# Altium integrated library Analog Devices Data Converters Digital-to-Analog Converters.IntLib: 2231 symbols (part 128 of 181)
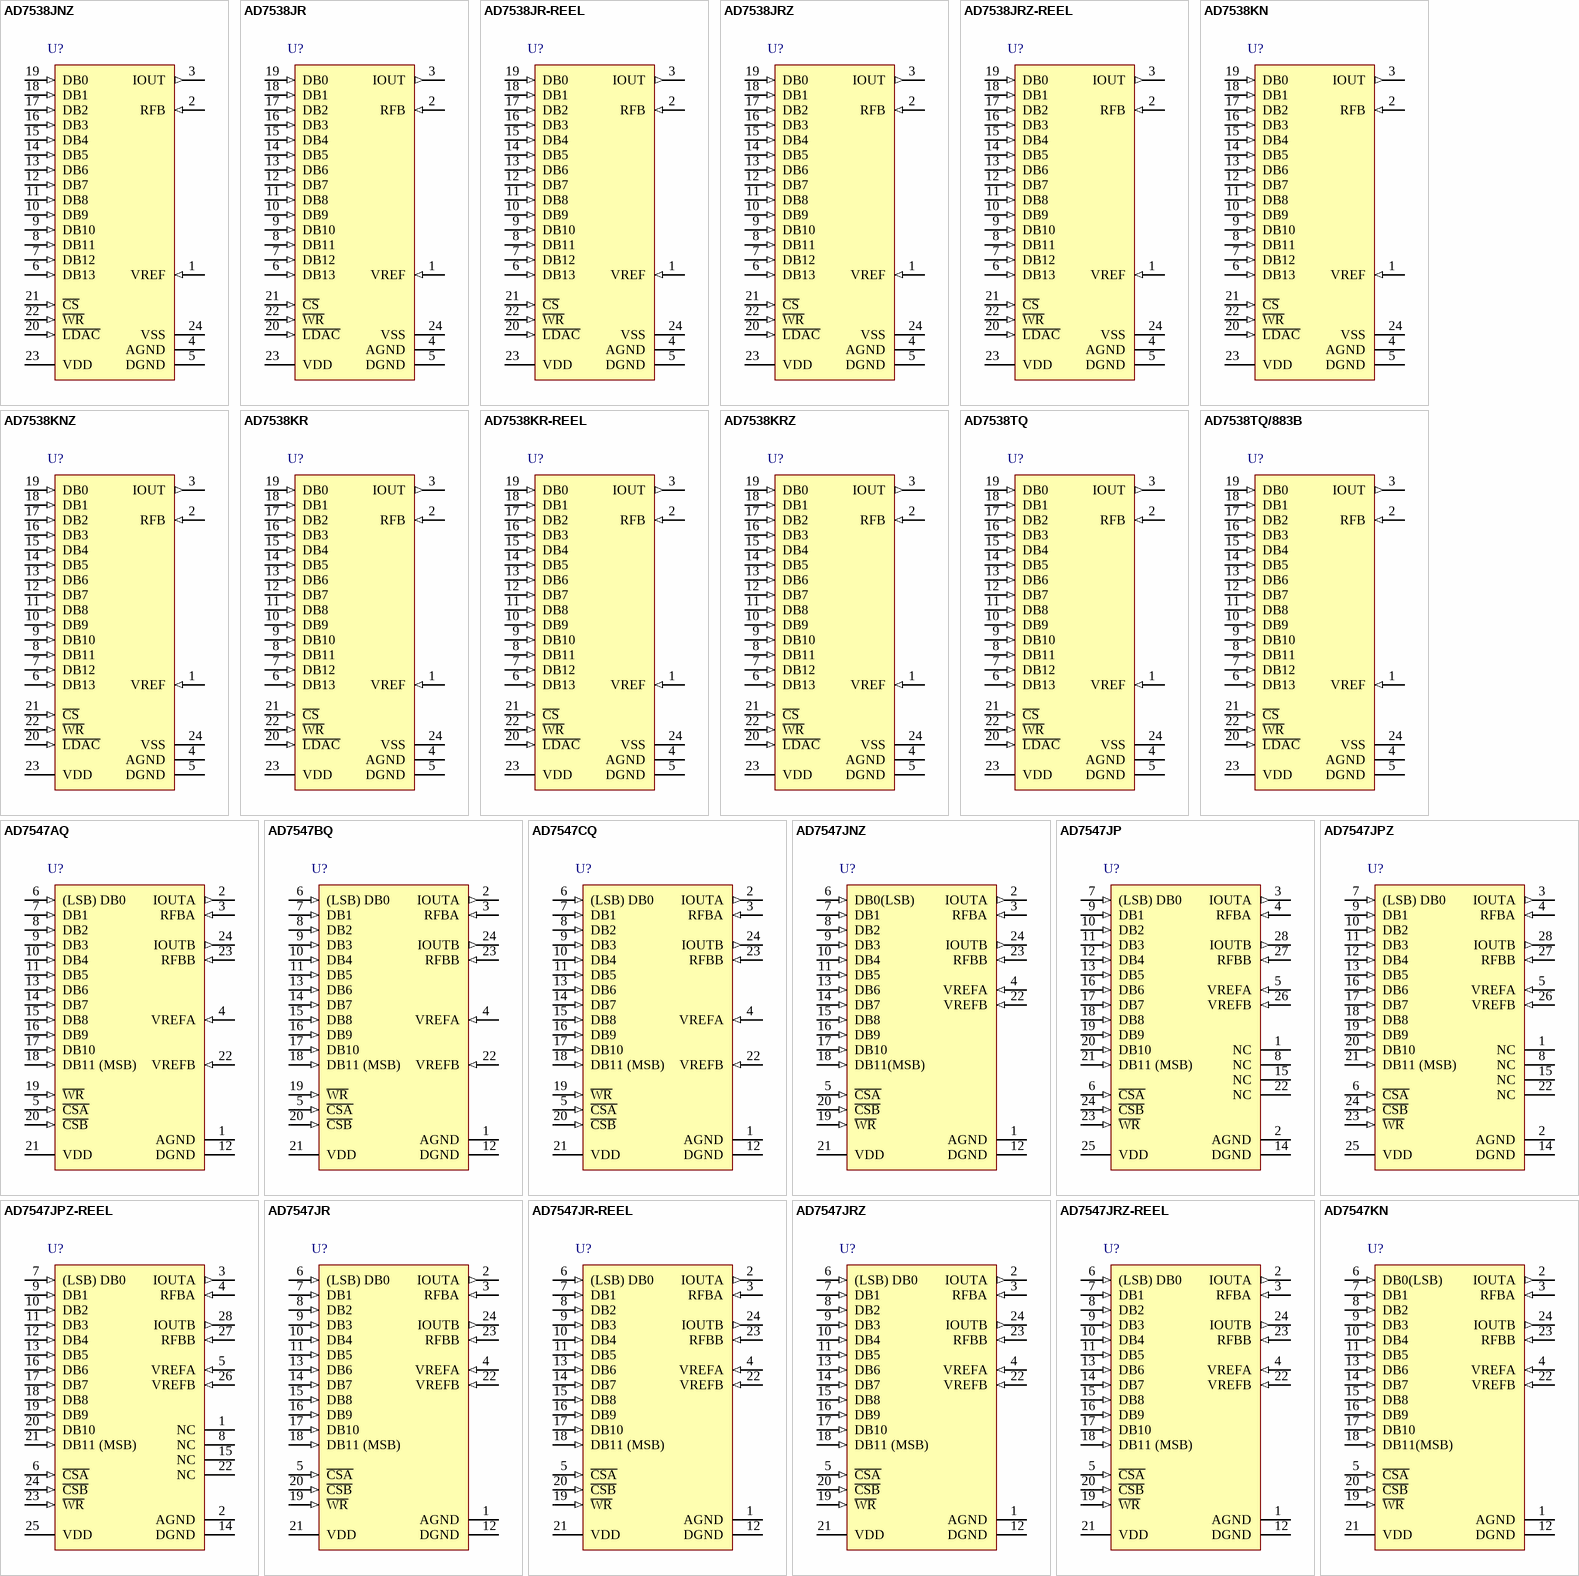
[diagram p241: symbols AD7538JNZ to AD7547KN]

## AD7538KRZ
designator U?
Single 14-Bit LC2MOS Microprocessor-Compatible Digital-to-Analog Converter, 0 to +70 degC, RW-24, Pb-Free, Tube; Generic Part Number: AD7538; Manufacturer: Analog Devices; PartNumber: AD7538KRZ; # DAC Outputs: 1; Max V+: 15.75V; Op Pwr Diss: 60mW; Resolution (Bits): 14; Settling Time: 1.5µs; Single Supply: No; DatasheetVersion: Rev.B; PackageVersion: 060706-A; PackageReference: RW-24; PackageDescription: 24-Lead Standard Small Outline Package [SOIC_W]; Supplier 1: Digi-Key; Supplier Part Number 1: AD7538KRZ-ND; Supplier 2: Mouser; Supplier Part Number 2: 584-AD7538KRZ; Packing: Tube; RoHS: Y; Mounting Technology: Surface Mount; Code_JEDEC: MS-013-AD; ComponentLink1Description: Manufacturer URL; ComponentLink1URL: http://www.analog.com/en/index.html; ComponentLink2Description: Datasheet; ComponentLink2URL: http://www.analog.com/static/imported-files/data_sheets/AD7538.pdf; ComponentLink3Description: Package Specification; ComponentLink3URL: http://www.analog.com/static/imported-files/packages/33665150946139RW_24.pdf; ComponentLink4Description: Product URL; ComponentLink4URL: http://www.analog.com/en/digital-to-analog-converters/da-converters/ad7538/products/product.html
footprint RW-24_N (SOIC, 24-Leads, Body 15.4x7.5mm, Pitch 1.27mm, IPC Medium Density)
footprint RW-24_L (SOIC, 24-Leads, Body 15.4x7.5mm, Pitch 1.27mm, IPC High Density)
footprint RW-24_M (SOIC, 24-Leads, Body 15.4x7.5mm, Pitch 1.27mm, IPC Low Density)
pins: 1 VREF (in) "Voltage Reference.", 2 RFB (in) "Feedback Resistor. Used to close the loop around an external op amp.", 3 IOUT (out) "Current Output Terminal.", 4 AGND (power) "Analog Ground", 5 DGND (power) "Digital Ground.", 6 DB13 (in) "Data Input. Bit DB13 (MSB).", 7 DB12 (in) "Data Input.", 8 DB11 (in) "Data Input.", 9 DB10 (in) "Data Input.", 10 DB9 (in) "Data Input.", 11 DB8 (in) "Data Input.", 12 DB7 (in) "Data Input.", 13 DB6 (in) "Data Input.", 14 DB5 (in) "Data Input.", 15 DB4 (in) "Data Input.", 16 DB3 (in) "Data Input.", 17 DB2 (in) "Data Input.", 18 DB1 (in) "Data Input.", 19 DB0 (in) "Data Input. Bit DB0 (LSB).", 20 ~{LDAC} (in) "Chip Select Input. Active low.", 21 ~{CS} (in) "Asynchronous Load DAC Input. Active low.", 22 ~{WR} (in) "Write Input. Active low.", 23 VDD (power) "+12 V to +15 V Supply Input.", 24 VSS (power) "Bias pin for high temperature low leakage configuration. To implement low leakage system, the pin should be at a negative voltage. See Figure 6 and Figure 8 for recommended circuitry."

## AD7538TQ
designator U?
Single 14-Bit LC2MOS Microprocessor-Compatible Digital-to-Analog Converter, -55 to +125 degC, Q-24-1, Tube; Generic Part Number: AD7538; Manufacturer: Analog Devices; PartNumber: AD7538TQ; # DAC Outputs: 1; Max V+: 15.75V; Op Pwr Diss: 60mW; Resolution (Bits): 14; Settling Time: 1.5µs; Single Supply: No; DatasheetVersion: Rev.B; PackageVersion: 100808-A; PackageReference: Q-24-1; PackageDescription: 24-Lead Ceramic Dual In-Line Package [CERDIP]; Supplier 1: Digi-Key; Supplier Part Number 1: AD7538TQ-ND; Supplier 2: Newark; Supplier Part Number 2: 09B5788; Supplier 3: Mouser; Supplier Part Number 3: 584-AD7538TQ; Packing: Tube; RoHS: N; Mounting Technology: Through Hole; ComponentLink1Description: Manufacturer URL; ComponentLink1URL: http://www.analog.com/en/index.html; ComponentLink2Description: Datasheet; ComponentLink2URL: http://www.analog.com/static/imported-files/data_sheets/AD7538.pdf; ComponentLink3Description: Package Specification; ComponentLink3URL: http://www.analog.com/static/imported-files/packages/PKG_PDF/CERDIP(Q)/Q_24_1.pdf; ComponentLink4Description: Product URL; ComponentLink4URL: http://www.analog.com/en/digital-to-analog-converters/da-converters/ad7538/products/product.html
footprint Q-24-1 (DIP, 24-Leads, Row Spacing 7.62mm, Pitch 2.54mm, Body 31.9x6.7mm)
pins: 1 VREF (in) "Voltage Reference.", 2 RFB (in) "Feedback Resistor. Used to close the loop around an external op amp.", 3 IOUT (out) "Current Output Terminal.", 4 AGND (power) "Analog Ground", 5 DGND (power) "Digital Ground.", 6 DB13 (in) "Data Input. Bit DB13 (MSB).", 7 DB12 (in) "Data Input.", 8 DB11 (in) "Data Input.", 9 DB10 (in) "Data Input.", 10 DB9 (in) "Data Input.", 11 DB8 (in) "Data Input.", 12 DB7 (in) "Data Input.", 13 DB6 (in) "Data Input.", 14 DB5 (in) "Data Input.", 15 DB4 (in) "Data Input.", 16 DB3 (in) "Data Input.", 17 DB2 (in) "Data Input.", 18 DB1 (in) "Data Input.", 19 DB0 (in) "Data Input. Bit DB0 (LSB).", 20 ~{LDAC} (in) "Chip Select Input. Active low.", 21 ~{CS} (in) "Asynchronous Load DAC Input. Active low.", 22 ~{WR} (in) "Write Input. Active low.", 23 VDD (power) "+12 V to +15 V Supply Input.", 24 VSS (power) "Bias pin for high temperature low leakage configuration. To implement low leakage system, the pin should be at a negative voltage. See Figure 6 and Figure 8 for recommended circuitry."

## AD7538TQ/883B
designator U?
Single 14-Bit LC2MOS Microprocessor-Compatible Digital-to-Analog Converter, -55 to +125 degC, Q-24-1, Tube; Generic Part Number: AD7538; Manufacturer: Analog Devices; PartNumber: AD7538TQ/883B; # DAC Outputs: 1; Max V+: 15.75V; Op Pwr Diss: 60mW; Resolution (Bits): 14; Settling Time: 1.5µs; Single Supply: No; DatasheetVersion: Rev.B; PackageVersion: 100808-A; PackageReference: Q-24-1; PackageDescription: 24-Lead Ceramic Dual In-Line Package [CERDIP]; Supplier 1: Mouser; Supplier Part Number 1: 584-AD7538TQ883B; Packing: Tube; RoHS: N; Mounting Technology: Through Hole; ComponentLink1Description: Manufacturer URL; ComponentLink1URL: http://www.analog.com/en/index.html; ComponentLink2Description: Datasheet; ComponentLink2URL: http://www.analog.com/static/imported-files/data_sheets/AD7538.pdf; ComponentLink3Description: Package Specification; ComponentLink3URL: http://www.analog.com/static/imported-files/packages/PKG_PDF/CERDIP(Q)/Q_24_1.pdf; ComponentLink4Description: Product URL; ComponentLink4URL: http://www.analog.com/en/digital-to-analog-converters/da-converters/ad7538/products/product.html
footprint Q-24-1 (DIP, 24-Leads, Row Spacing 7.62mm, Pitch 2.54mm, Body 31.9x6.7mm)
pins: 1 VREF (in) "Voltage Reference.", 2 RFB (in) "Feedback Resistor. Used to close the loop around an external op amp.", 3 IOUT (out) "Current Output Terminal.", 4 AGND (power) "Analog Ground", 5 DGND (power) "Digital Ground.", 6 DB13 (in) "Data Input. Bit DB13 (MSB).", 7 DB12 (in) "Data Input.", 8 DB11 (in) "Data Input.", 9 DB10 (in) "Data Input.", 10 DB9 (in) "Data Input.", 11 DB8 (in) "Data Input.", 12 DB7 (in) "Data Input.", 13 DB6 (in) "Data Input.", 14 DB5 (in) "Data Input.", 15 DB4 (in) "Data Input.", 16 DB3 (in) "Data Input.", 17 DB2 (in) "Data Input.", 18 DB1 (in) "Data Input.", 19 DB0 (in) "Data Input. Bit DB0 (LSB).", 20 ~{LDAC} (in) "Chip Select Input. Active low.", 21 ~{CS} (in) "Asynchronous Load DAC Input. Active low.", 22 ~{WR} (in) "Write Input. Active low.", 23 VDD (power) "+12 V to +15 V Supply Input.", 24 VSS (power) "Bias pin for high temperature low leakage configuration. To implement low leakage system, the pin should be at a negative voltage. See Figure 6 and Figure 8 for recommended circuitry."

## AD7547AQ
designator U?
Dual 12-Bit LC2MOS Digital-to-Analog Converter with Parallel Loading, -40 to +85 degC, Q-24-1, Tube; Generic Part Number: AD7547; Manufacturer: Analog Devices; PartNumber: AD7547AQ; # DAC Outputs: 2; Max V+: 16.5V; Op Pwr Diss: 30mW; Resolution (Bits): 12; Settling Time: 1.5µs; Single Supply: Yes; DatasheetVersion: Rev.A; PackageVersion: 100808-A; PackageReference: Q-24-1; PackageDescription: 24-Lead Ceramic Dual In-Line Package [CERDIP]; Supplier 1: Digi-Key; Supplier Part Number 1: AD7547AQ-ND; Supplier 2: Mouser; Supplier Part Number 2: 584-AD7547AQ; Packing: Tube; RoHS: N; Mounting Technology: Through Hole; ComponentLink1Description: Manufacturer URL; ComponentLink1URL: http://www.analog.com/en/index.html; ComponentLink2Description: Datasheet; ComponentLink2URL: http://www.analog.com/static/imported-files/data_sheets/AD7547.pdf; ComponentLink3Description: Package Specification; ComponentLink3URL: http://www.analog.com/static/imported-files/packages/PKG_PDF/CERDIP(Q)/Q_24_1.pdf; ComponentLink4Description: Product URL; ComponentLink4URL: http://www.analog.com/en/digital-to-analog-converters/da-converters/ad7547/products/product.html
footprint Q-24-1 (DIP, 24-Leads, Row Spacing 7.62mm, Pitch 2.54mm, Body 31.9x6.7mm)
pins: 1 AGND (power) "Analog Ground.", 2 IOUTA (out) "Current output terminal of DACA.", 3 RFBA (in) "Feedback resistor for DACA.", 4 VREFA (in) "Reference input to DACA.", 5 ~{CSA} (in) "Chip Select Input for DACA. Active low.", 6 (LSB) DB0 (in) "Data input.", 7 DB1 (in) "Data input.", 8 DB2 (in) "Data input.", 9 DB3 (in) "Data input.", 10 DB4 (in) "Data input.", 11 DB5 (in) "Data input.", 12 DGND (power) "Digital Ground.", 13 DB6 (in) "Data input.", 14 DB7 (in) "Data input.", 15 DB8 (in) "Data input.", 16 DB9 (in) "Data input.", 17 DB10 (in) "Data input.", 18 DB11 (MSB) (in) "Data input.", 19 ~{WR} (in) "Write Input. Data transfer occurs on rising edge of W\R\. See Table I.", 20 ~{CSB} (in) "Chip Select Input for DACB. Active low.", 21 VDD (power) "Power supply input. Norminally +12V to +15V with + / - 10% tolerance.", 22 VREFB (in) "Reference input to DACB.", 23 RFBB (in) "Feedback resistor of DACB.", 24 IOUTB (out) "Current output terminal of DACB."

## AD7547BQ
designator U?
Dual 12-Bit LC2MOS Digital-to-Analog Converter with Parallel Loading, -40 to +85 degC, Q-24-1, Tube; Generic Part Number: AD7547; Manufacturer: Analog Devices; PartNumber: AD7547BQ; # DAC Outputs: 2; Max V+: 16.5V; Op Pwr Diss: 30mW; Resolution (Bits): 12; Settling Time: 1.5µs; Single Supply: Yes; DatasheetVersion: Rev.A; PackageVersion: 100808-A; PackageReference: Q-24-1; PackageDescription: 24-Lead Ceramic Dual In-Line Package [CERDIP]; Supplier 1: Digi-Key; Supplier Part Number 1: AD7547BQ-ND; Supplier 2: Mouser; Supplier Part Number 2: 584-AD7547BQ; Packing: Tube; RoHS: N; Mounting Technology: Through Hole; ComponentLink1Description: Manufacturer URL; ComponentLink1URL: http://www.analog.com/en/index.html; ComponentLink2Description: Datasheet; ComponentLink2URL: http://www.analog.com/static/imported-files/data_sheets/AD7547.pdf; ComponentLink3Description: Package Specification; ComponentLink3URL: http://www.analog.com/static/imported-files/packages/PKG_PDF/CERDIP(Q)/Q_24_1.pdf; ComponentLink4Description: Product URL; ComponentLink4URL: http://www.analog.com/en/digital-to-analog-converters/da-converters/ad7547/products/product.html
footprint Q-24-1 (DIP, 24-Leads, Row Spacing 7.62mm, Pitch 2.54mm, Body 31.9x6.7mm)
pins: 1 AGND (power) "Analog Ground.", 2 IOUTA (out) "Current output terminal of DACA.", 3 RFBA (in) "Feedback resistor for DACA.", 4 VREFA (in) "Reference input to DACA.", 5 ~{CSA} (in) "Chip Select Input for DACA. Active low.", 6 (LSB) DB0 (in) "Data input.", 7 DB1 (in) "Data input.", 8 DB2 (in) "Data input.", 9 DB3 (in) "Data input.", 10 DB4 (in) "Data input.", 11 DB5 (in) "Data input.", 12 DGND (power) "Digital Ground.", 13 DB6 (in) "Data input.", 14 DB7 (in) "Data input.", 15 DB8 (in) "Data input.", 16 DB9 (in) "Data input.", 17 DB10 (in) "Data input.", 18 DB11 (MSB) (in) "Data input.", 19 ~{WR} (in) "Write Input. Data transfer occurs on rising edge of W\R\. See Table I.", 20 ~{CSB} (in) "Chip Select Input for DACB. Active low.", 21 VDD (power) "Power supply input. Norminally +12V to +15V with + / - 10% tolerance.", 22 VREFB (in) "Reference input to DACB.", 23 RFBB (in) "Feedback resistor of DACB.", 24 IOUTB (out) "Current output terminal of DACB."

## AD7547CQ
designator U?
Dual 12-Bit LC2MOS Digital-to-Analog Converter with Parallel Loading, -40 to +85 degC, Q-24-1, Tube; Generic Part Number: AD7547; Manufacturer: Analog Devices; PartNumber: AD7547CQ; # DAC Outputs: 2; Max V+: 16.5V; Op Pwr Diss: 30mW; Resolution (Bits): 12; Settling Time: 1.5µs; Single Supply: Yes; DatasheetVersion: Rev.A; PackageVersion: 100808-A; PackageReference: Q-24-1; PackageDescription: 24-Lead Ceramic Dual In-Line Package [CERDIP]; Supplier 1: Digi-Key; Supplier Part Number 1: AD7547CQ-ND; Supplier 2: Mouser; Supplier Part Number 2: 584-AD7547CQ; Packing: Tube; RoHS: N; Mounting Technology: Through Hole; ComponentLink1Description: Manufacturer URL; ComponentLink1URL: http://www.analog.com/en/index.html; ComponentLink2Description: Datasheet; ComponentLink2URL: http://www.analog.com/static/imported-files/data_sheets/AD7547.pdf; ComponentLink3Description: Package Specification; ComponentLink3URL: http://www.analog.com/static/imported-files/packages/PKG_PDF/CERDIP(Q)/Q_24_1.pdf; ComponentLink4Description: Product URL; ComponentLink4URL: http://www.analog.com/en/digital-to-analog-converters/da-converters/ad7547/products/product.html
footprint Q-24-1 (DIP, 24-Leads, Row Spacing 7.62mm, Pitch 2.54mm, Body 31.9x6.7mm)
pins: 1 AGND (power) "Analog Ground.", 2 IOUTA (out) "Current output terminal of DACA.", 3 RFBA (in) "Feedback resistor for DACA.", 4 VREFA (in) "Reference input to DACA.", 5 ~{CSA} (in) "Chip Select Input for DACA. Active low.", 6 (LSB) DB0 (in) "Data input.", 7 DB1 (in) "Data input.", 8 DB2 (in) "Data input.", 9 DB3 (in) "Data input.", 10 DB4 (in) "Data input.", 11 DB5 (in) "Data input.", 12 DGND (power) "Digital Ground.", 13 DB6 (in) "Data input.", 14 DB7 (in) "Data input.", 15 DB8 (in) "Data input.", 16 DB9 (in) "Data input.", 17 DB10 (in) "Data input.", 18 DB11 (MSB) (in) "Data input.", 19 ~{WR} (in) "Write Input. Data transfer occurs on rising edge of W\R\. See Table I.", 20 ~{CSB} (in) "Chip Select Input for DACB. Active low.", 21 VDD (power) "Power supply input. Norminally +12V to +15V with + / - 10% tolerance.", 22 VREFB (in) "Reference input to DACB.", 23 RFBB (in) "Feedback resistor of DACB.", 24 IOUTB (out) "Current output terminal of DACB."

## AD7547JNZ
designator U?
Dual 12-Bit LC2MOS Digital-to-Analog Converter with Parallel Loading, 0 to +70 degC, N-24-1, Pb-Free, Tube; Generic Part Number: AD7547; Manufacturer: Analog Devices; PartNumber: AD7547JNZ; # DAC Outputs: 2; Max V+: 16.5V; Op Pwr Diss: 30mW; Resolution (Bits): 12; Settling Time: 1.5µs; Single Supply: Yes; DatasheetVersion: Rev.A; PackageVersion: 071006-A; PackageReference: N-24-1; PackageDescription: 24-Lead Plastic Dual In-Line Package [PDIP] Narrow Body; Supplier 1: Digi-Key; Supplier Part Number 1: AD7547JNZ-ND; Supplier 2: Farnell; Supplier Part Number 2: 9604570; Supplier 3: Newark; Supplier Part Number 3: 59K5030; Supplier 4: Mouser; Supplier Part Number 4: 584-AD7547JNZ; Packing: Tube; RoHS: Y; Mounting Technology: Through Hole; Code_JEDEC: MS-001; ComponentLink1Description: Manufacturer URL; ComponentLink1URL: http://www.analog.com/en/index.html; ComponentLink2Description: Datasheet; ComponentLink2URL: http://www.analog.com/static/imported-files/data_sheets/AD7547.pdf; ComponentLink3Description: Package Specification; ComponentLink3URL: http://www.analog.com/static/imported-files/packages/50726455539629N_24_1.pdf; ComponentLink4Description: Product URL; ComponentLink4URL: http://www.analog.com/en/digital-to-analog-converters/da-converters/ad7547/products/product.html
footprint N-24-1 (DIP, 24-Leads, Row Spacing 7.62mm, Pitch 2.54mm, Body 31.9x6.6mm)
pins: 1 AGND (power) "Analog Ground.", 2 IOUTA (out) "Current output terminal of DACA.", 3 RFBA (in) "Feedback resistor for DACA.", 4 VREFA (in) "Reference input to DACA.", 5 ~{CSA} (in) "Chip Select Input for DACA. Active low.", 6 DB0(LSB) (in) "Data input.", 7 DB1 (in) "Data input.", 8 DB2 (in) "Data input.", 9 DB3 (in) "Data input.", 10 DB4 (in) "Data input.", 11 DB5 (in) "Data input.", 12 DGND (power) "Digital Ground.", 13 DB6 (in) "Data input.", 14 DB7 (in) "Data input.", 15 DB8 (in) "Data input.", 16 DB9 (in) "Data input.", 17 DB10 (in) "Data input.", 18 DB11(MSB) (in) "Data input.", 19 ~{WR} (in) "Write Input. Data transfer occurs on rising edge of W\R\. See Table I.", 20 ~{CSB} (in) "Chip Select Input for DACB. Active low.", 21 VDD (power) "Power supply input. Norminally +12V to +15V with + / - 10% tolerance.", 22 VREFB (in) "Reference input to DACB.", 23 RFBB (in) "Feedback resistor of DACB.", 24 IOUTB (out) "Current output terminal of DACB."

## AD7547JP
designator U?
Dual 12-Bit LC2MOS Digital-to-Analog Converter with Parallel Loading, 0 to +70 degC, P-28, Tube; Generic Part Number: AD7547; Manufacturer: Analog Devices; PartNumber: AD7547JP; # DAC Outputs: 2; Max V+: 16.5V; Op Pwr Diss: 30mW; Resolution (Bits): 12; Settling Time: 1.5µs; Single Supply: Yes; DatasheetVersion: Rev.A; PackageVersion: 042508-A; PackageReference: P-28; PackageDescription: 28-Lead Plastic Leaded Chip Carrier [PLCC]; Supplier 1: Digi-Key; Supplier Part Number 1: AD7547JP-ND; Supplier 2: Mouser; Supplier Part Number 2: 584-AD7547JP; Packing: Tube; RoHS: N; Mounting Technology: Surface Mount; Code_JEDEC: MO-047-AB; ComponentLink1Description: Manufacturer URL; ComponentLink1URL: http://www.analog.com/en/index.html; ComponentLink2Description: Datasheet; ComponentLink2URL: http://www.analog.com/static/imported-files/data_sheets/AD7547.pdf; ComponentLink3Description: Package Specification; ComponentLink3URL: http://www.analog.com/static/imported-files/packages/PKG_PDF/PLCC(P)/P_28.pdf; ComponentLink4Description: Product URL; ComponentLink4URL: http://www.analog.com/en/digital-to-analog-converters/da-converters/ad7547/products/product.html
footprint P-28_N (Leaded Chip Carrier, 28-Leads, Body 11.5x11.5mm, Pitch 1.27mm, IPC Medium Density)
footprint P-28_L (Leaded Chip Carrier, 28-Leads, Body 11.5x11.5mm, Pitch 1.27mm, IPC High Density)
footprint P-28_M (Leaded Chip Carrier, 28-Leads, Body 11.5x11.5mm, Pitch 1.27mm, IPC Low Density)
pins: 1 NC, 2 AGND (power), 3 IOUTA (out), 4 RFBA (in), 5 VREFA (in), 6 ~{CSA} (in), 7 (LSB) DB0 (in), 8 NC, 9 DB1 (in), 10 DB2 (in), 11 DB3 (in), 12 DB4 (in), 13 DB5 (in), 14 DGND (power), 15 NC, 16 DB6 (in), 17 DB7 (in), 18 DB8 (in), 19 DB9 (in), 20 DB10 (in), 21 DB11 (MSB) (in), 22 NC, 23 ~{WR} (in), 24 ~{CSB} (in), 25 VDD (power), 26 VREFB (in), 27 RFBB (in), 28 IOUTB (out)

## AD7547JPZ
designator U?
Dual 12-Bit LC2MOS Digital-to-Analog Converter with Parallel Loading, 0 to +70 degC, P-28, Pb-Free, Tube; Generic Part Number: AD7547; Manufacturer: Analog Devices; PartNumber: AD7547JPZ; # DAC Outputs: 2; Max V+: 16.5V; Op Pwr Diss: 30mW; Resolution (Bits): 12; Settling Time: 1.5µs; Single Supply: Yes; DatasheetVersion: Rev.A; PackageVersion: 042508-A; PackageReference: P-28; PackageDescription: 28-Lead Plastic Leaded Chip Carrier [PLCC]; Supplier 1: Digi-Key; Supplier Part Number 1: AD7547JPZ-ND; Supplier 2: Mouser; Supplier Part Number 2: 584-AD7547JPZ; Packing: Tube; RoHS: Y; Mounting Technology: Surface Mount; Code_JEDEC: MO-047-AB; ComponentLink1Description: Manufacturer URL; ComponentLink1URL: http://www.analog.com/en/index.html; ComponentLink2Description: Datasheet; ComponentLink2URL: http://www.analog.com/static/imported-files/data_sheets/AD7547.pdf; ComponentLink3Description: Package Specification; ComponentLink3URL: http://www.analog.com/static/imported-files/packages/PKG_PDF/PLCC(P)/P_28.pdf; ComponentLink4Description: Product URL; ComponentLink4URL: http://www.analog.com/en/digital-to-analog-converters/da-converters/ad7547/products/product.html
footprint P-28_N (Leaded Chip Carrier, 28-Leads, Body 11.5x11.5mm, Pitch 1.27mm, IPC Medium Density)
footprint P-28_L (Leaded Chip Carrier, 28-Leads, Body 11.5x11.5mm, Pitch 1.27mm, IPC High Density)
footprint P-28_M (Leaded Chip Carrier, 28-Leads, Body 11.5x11.5mm, Pitch 1.27mm, IPC Low Density)
pins: 1 NC, 2 AGND (power), 3 IOUTA (out), 4 RFBA (in), 5 VREFA (in), 6 ~{CSA} (in), 7 (LSB) DB0 (in), 8 NC, 9 DB1 (in), 10 DB2 (in), 11 DB3 (in), 12 DB4 (in), 13 DB5 (in), 14 DGND (power), 15 NC, 16 DB6 (in), 17 DB7 (in), 18 DB8 (in), 19 DB9 (in), 20 DB10 (in), 21 DB11 (MSB) (in), 22 NC, 23 ~{WR} (in), 24 ~{CSB} (in), 25 VDD (power), 26 VREFB (in), 27 RFBB (in), 28 IOUTB (out)

## AD7547JPZ-REEL
designator U?
Dual 12-Bit LC2MOS Digital-to-Analog Converter with Parallel Loading, 0 to +70 degC, P-28, Pb-Free, Reel; Generic Part Number: AD7547; Manufacturer: Analog Devices; PartNumber: AD7547JPZ-REEL; # DAC Outputs: 2; Max V+: 16.5V; Op Pwr Diss: 30mW; Resolution (Bits): 12; Settling Time: 1.5µs; Single Supply: Yes; DatasheetVersion: Rev.A; PackageVersion: 042508-A; PackageReference: P-28; PackageDescription: 28-Lead Plastic Leaded Chip Carrier [PLCC]; Supplier 1: Digi-Key; Supplier Part Number 1: AD7547JPZ-REEL-ND; Supplier 2: Mouser; Supplier Part Number 2: 584-AD7547JPZ-R; Packing: Reel; RoHS: Y; Mounting Technology: Surface Mount; Code_JEDEC: MO-047-AB; ComponentLink1Description: Manufacturer URL; ComponentLink1URL: http://www.analog.com/en/index.html; ComponentLink2Description: Datasheet; ComponentLink2URL: http://www.analog.com/static/imported-files/data_sheets/AD7547.pdf; ComponentLink3Description: Package Specification; ComponentLink3URL: http://www.analog.com/static/imported-files/packages/PKG_PDF/PLCC(P)/P_28.pdf; ComponentLink4Description: Product URL; ComponentLink4URL: http://www.analog.com/en/digital-to-analog-converters/da-converters/ad7547/products/product.html
footprint P-28_N (Leaded Chip Carrier, 28-Leads, Body 11.5x11.5mm, Pitch 1.27mm, IPC Medium Density)
footprint P-28_L (Leaded Chip Carrier, 28-Leads, Body 11.5x11.5mm, Pitch 1.27mm, IPC High Density)
footprint P-28_M (Leaded Chip Carrier, 28-Leads, Body 11.5x11.5mm, Pitch 1.27mm, IPC Low Density)
pins: 1 NC, 2 AGND (power), 3 IOUTA (out), 4 RFBA (in), 5 VREFA (in), 6 ~{CSA} (in), 7 (LSB) DB0 (in), 8 NC, 9 DB1 (in), 10 DB2 (in), 11 DB3 (in), 12 DB4 (in), 13 DB5 (in), 14 DGND (power), 15 NC, 16 DB6 (in), 17 DB7 (in), 18 DB8 (in), 19 DB9 (in), 20 DB10 (in), 21 DB11 (MSB) (in), 22 NC, 23 ~{WR} (in), 24 ~{CSB} (in), 25 VDD (power), 26 VREFB (in), 27 RFBB (in), 28 IOUTB (out)

## AD7547JR
designator U?
Dual 12-Bit LC2MOS Digital-to-Analog Converter with Parallel Loading, 0 to +70 degC, RW-24, Tube; Generic Part Number: AD7547; Manufacturer: Analog Devices; PartNumber: AD7547JR; # DAC Outputs: 2; Max V+: 16.5V; Op Pwr Diss: 30mW; Resolution (Bits): 12; Settling Time: 1.5µs; Single Supply: Yes; DatasheetVersion: Rev.A; PackageVersion: 060706-A; PackageReference: RW-24; PackageDescription: 24-Lead Standard Small Outline Package [SOIC_W]; Supplier 1: Digi-Key; Supplier Part Number 1: AD7547JR-ND; Supplier 2: Mouser; Supplier Part Number 2: 584-AD7547JR; Packing: Tube; RoHS: N; Mounting Technology: Surface Mount; Code_JEDEC: MS-013-AD; ComponentLink1Description: Manufacturer URL; ComponentLink1URL: http://www.analog.com/en/index.html; ComponentLink2Description: Datasheet; ComponentLink2URL: http://www.analog.com/static/imported-files/data_sheets/AD7547.pdf; ComponentLink3Description: Package Specification; ComponentLink3URL: http://www.analog.com/static/imported-files/packages/33665150946139RW_24.pdf; ComponentLink4Description: Product URL; ComponentLink4URL: http://www.analog.com/en/digital-to-analog-converters/da-converters/ad7547/products/product.html
footprint RW-24_N (SOIC, 24-Leads, Body 15.4x7.5mm, Pitch 1.27mm, IPC Medium Density)
footprint RW-24_L (SOIC, 24-Leads, Body 15.4x7.5mm, Pitch 1.27mm, IPC High Density)
footprint RW-24_M (SOIC, 24-Leads, Body 15.4x7.5mm, Pitch 1.27mm, IPC Low Density)
pins: 1 AGND (power) "Analog Ground.", 2 IOUTA (out) "Current output terminal of DACA.", 3 RFBA (in) "Feedback resistor for DACA.", 4 VREFA (in) "Reference input to DACA.", 5 ~{CSA} (in) "Chip Select Input for DACA. Active low.", 6 (LSB) DB0 (in) "Data input.", 7 DB1 (in) "Data input.", 8 DB2 (in) "Data input.", 9 DB3 (in) "Data input.", 10 DB4 (in) "Data input.", 11 DB5 (in) "Data input.", 12 DGND (power) "Digital Ground.", 13 DB6 (in) "Data input.", 14 DB7 (in) "Data input.", 15 DB8 (in) "Data input.", 16 DB9 (in) "Data input.", 17 DB10 (in) "Data input.", 18 DB11 (MSB) (in) "Data input.", 19 ~{WR} (in) "Write Input. Data transfer occurs on rising edge of W\R\. See Table I.", 20 ~{CSB} (in) "Chip Select Input for DACB. Active low.", 21 VDD (power) "Power supply input. Nominally +12V to +15V with + / -10% tolerance.", 22 VREFB (in) "Reference input to DACB.", 23 RFBB (in) "Feedback resistor of DACB.", 24 IOUTB (out) "Current output terminal of DACB."

## AD7547JR-REEL
designator U?
Dual 12-Bit LC2MOS Digital-to-Analog Converter with Parallel Loading, 0 to +70 degC, RW-24, Reel; Generic Part Number: AD7547; Manufacturer: Analog Devices; PartNumber: AD7547JR-REEL; # DAC Outputs: 2; Max V+: 16.5V; Op Pwr Diss: 30mW; Resolution (Bits): 12; Settling Time: 1.5µs; Single Supply: Yes; DatasheetVersion: Rev.A; PackageVersion: 060706-A; PackageReference: RW-24; PackageDescription: 24-Lead Standard Small Outline Package [SOIC_W]; Supplier 1: Digi-Key; Supplier Part Number 1: AD7547JR-REEL-ND; Supplier 2: Mouser; Supplier Part Number 2: 584-AD7547JR-R; Packing: Reel; RoHS: N; Mounting Technology: Surface Mount; Code_JEDEC: MS-013-AD; ComponentLink1Description: Manufacturer URL; ComponentLink1URL: http://www.analog.com/en/index.html; ComponentLink2Description: Datasheet; ComponentLink2URL: http://www.analog.com/static/imported-files/data_sheets/AD7547.pdf; ComponentLink3Description: Package Specification; ComponentLink3URL: http://www.analog.com/static/imported-files/packages/33665150946139RW_24.pdf; ComponentLink4Description: Product URL; ComponentLink4URL: http://www.analog.com/en/digital-to-analog-converters/da-converters/ad7547/products/product.html
footprint RW-24_N (SOIC, 24-Leads, Body 15.4x7.5mm, Pitch 1.27mm, IPC Medium Density)
footprint RW-24_L (SOIC, 24-Leads, Body 15.4x7.5mm, Pitch 1.27mm, IPC High Density)
footprint RW-24_M (SOIC, 24-Leads, Body 15.4x7.5mm, Pitch 1.27mm, IPC Low Density)
pins: 1 AGND (power) "Analog Ground.", 2 IOUTA (out) "Current output terminal of DACA.", 3 RFBA (in) "Feedback resistor for DACA.", 4 VREFA (in) "Reference input to DACA.", 5 ~{CSA} (in) "Chip Select Input for DACA. Active low.", 6 (LSB) DB0 (in) "Data input.", 7 DB1 (in) "Data input.", 8 DB2 (in) "Data input.", 9 DB3 (in) "Data input.", 10 DB4 (in) "Data input.", 11 DB5 (in) "Data input.", 12 DGND (power) "Digital Ground.", 13 DB6 (in) "Data input.", 14 DB7 (in) "Data input.", 15 DB8 (in) "Data input.", 16 DB9 (in) "Data input.", 17 DB10 (in) "Data input.", 18 DB11 (MSB) (in) "Data input.", 19 ~{WR} (in) "Write Input. Data transfer occurs on rising edge of W\R\. See Table I.", 20 ~{CSB} (in) "Chip Select Input for DACB. Active low.", 21 VDD (power) "Power supply input. Nominally +12V to +15V with + / -10% tolerance.", 22 VREFB (in) "Reference input to DACB.", 23 RFBB (in) "Feedback resistor of DACB.", 24 IOUTB (out) "Current output terminal of DACB."

## AD7547JRZ
designator U?
Dual 12-Bit LC2MOS Digital-to-Analog Converter with Parallel Loading, 0 to +70 degC, RW-24, Pb-Free, Tube; Generic Part Number: AD7547; Manufacturer: Analog Devices; PartNumber: AD7547JRZ; # DAC Outputs: 2; Max V+: 16.5V; Op Pwr Diss: 30mW; Resolution (Bits): 12; Settling Time: 1.5µs; Single Supply: Yes; DatasheetVersion: Rev.A; PackageVersion: 060706-A; PackageReference: RW-24; PackageDescription: 24-Lead Standard Small Outline Package [SOIC_W]; Supplier 1: Digi-Key; Supplier Part Number 1: AD7547JRZ-ND; Supplier 2: Mouser; Supplier Part Number 2: 584-AD7547JRZ; Packing: Tube; RoHS: Y; Mounting Technology: Surface Mount; Code_JEDEC: MS-013-AD; ComponentLink1Description: Manufacturer URL; ComponentLink1URL: http://www.analog.com/en/index.html; ComponentLink2Description: Datasheet; ComponentLink2URL: http://www.analog.com/static/imported-files/data_sheets/AD7547.pdf; ComponentLink3Description: Package Specification; ComponentLink3URL: http://www.analog.com/static/imported-files/packages/33665150946139RW_24.pdf; ComponentLink4Description: Product URL; ComponentLink4URL: http://www.analog.com/en/digital-to-analog-converters/da-converters/ad7547/products/product.html
footprint RW-24_N (SOIC, 24-Leads, Body 15.4x7.5mm, Pitch 1.27mm, IPC Medium Density)
footprint RW-24_L (SOIC, 24-Leads, Body 15.4x7.5mm, Pitch 1.27mm, IPC High Density)
footprint RW-24_M (SOIC, 24-Leads, Body 15.4x7.5mm, Pitch 1.27mm, IPC Low Density)
pins: 1 AGND (power) "Analog Ground.", 2 IOUTA (out) "Current output terminal of DACA.", 3 RFBA (in) "Feedback resistor for DACA.", 4 VREFA (in) "Reference input to DACA.", 5 ~{CSA} (in) "Chip Select Input for DACA. Active low.", 6 (LSB) DB0 (in) "Data input.", 7 DB1 (in) "Data input.", 8 DB2 (in) "Data input.", 9 DB3 (in) "Data input.", 10 DB4 (in) "Data input.", 11 DB5 (in) "Data input.", 12 DGND (power) "Digital Ground.", 13 DB6 (in) "Data input.", 14 DB7 (in) "Data input.", 15 DB8 (in) "Data input.", 16 DB9 (in) "Data input.", 17 DB10 (in) "Data input.", 18 DB11 (MSB) (in) "Data input.", 19 ~{WR} (in) "Write Input. Data transfer occurs on rising edge of W\R\. See Table I.", 20 ~{CSB} (in) "Chip Select Input for DACB. Active low.", 21 VDD (power) "Power supply input. Nominally +12V to +15V with + / -10% tolerance.", 22 VREFB (in) "Reference input to DACB.", 23 RFBB (in) "Feedback resistor of DACB.", 24 IOUTB (out) "Current output terminal of DACB."

## AD7547JRZ-REEL
designator U?
Dual 12-Bit LC2MOS Digital-to-Analog Converter with Parallel Loading, 0 to +70 degC, RW-24, Pb-Free, Reel; Generic Part Number: AD7547; Manufacturer: Analog Devices; PartNumber: AD7547JRZ-REEL; # DAC Outputs: 2; Max V+: 16.5V; Op Pwr Diss: 30mW; Resolution (Bits): 12; Settling Time: 1.5µs; Single Supply: Yes; DatasheetVersion: Rev.A; PackageVersion: 060706-A; PackageReference: RW-24; PackageDescription: 24-Lead Standard Small Outline Package [SOIC_W]; Supplier 1: Digi-Key; Supplier Part Number 1: AD7547JRZ-REEL-ND; Supplier 2: Mouser; Supplier Part Number 2: 584-AD7547JRZ-R; Packing: Reel; RoHS: Y; Mounting Technology: Surface Mount; Code_JEDEC: MS-013-AD; ComponentLink1Description: Manufacturer URL; ComponentLink1URL: http://www.analog.com/en/index.html; ComponentLink2Description: Datasheet; ComponentLink2URL: http://www.analog.com/static/imported-files/data_sheets/AD7547.pdf; ComponentLink3Description: Package Specification; ComponentLink3URL: http://www.analog.com/static/imported-files/packages/33665150946139RW_24.pdf; ComponentLink4Description: Product URL; ComponentLink4URL: http://www.analog.com/en/digital-to-analog-converters/da-converters/ad7547/products/product.html
footprint RW-24_N (SOIC, 24-Leads, Body 15.4x7.5mm, Pitch 1.27mm, IPC Medium Density)
footprint RW-24_L (SOIC, 24-Leads, Body 15.4x7.5mm, Pitch 1.27mm, IPC High Density)
footprint RW-24_M (SOIC, 24-Leads, Body 15.4x7.5mm, Pitch 1.27mm, IPC Low Density)
pins: 1 AGND (power) "Analog Ground.", 2 IOUTA (out) "Current output terminal of DACA.", 3 RFBA (in) "Feedback resistor for DACA.", 4 VREFA (in) "Reference input to DACA.", 5 ~{CSA} (in) "Chip Select Input for DACA. Active low.", 6 (LSB) DB0 (in) "Data input.", 7 DB1 (in) "Data input.", 8 DB2 (in) "Data input.", 9 DB3 (in) "Data input.", 10 DB4 (in) "Data input.", 11 DB5 (in) "Data input.", 12 DGND (power) "Digital Ground.", 13 DB6 (in) "Data input.", 14 DB7 (in) "Data input.", 15 DB8 (in) "Data input.", 16 DB9 (in) "Data input.", 17 DB10 (in) "Data input.", 18 DB11 (MSB) (in) "Data input.", 19 ~{WR} (in) "Write Input. Data transfer occurs on rising edge of W\R\. See Table I.", 20 ~{CSB} (in) "Chip Select Input for DACB. Active low.", 21 VDD (power) "Power supply input. Nominally +12V to +15V with + / -10% tolerance.", 22 VREFB (in) "Reference input to DACB.", 23 RFBB (in) "Feedback resistor of DACB.", 24 IOUTB (out) "Current output terminal of DACB."

## AD7547KN
designator U?
Dual 12-Bit LC2MOS Digital-to-Analog Converter with Parallel Loading, 0 to +70 degC, N-24-1, Tube; Generic Part Number: AD7547; Manufacturer: Analog Devices; PartNumber: AD7547KN; # DAC Outputs: 2; Max V+: 16.5V; Op Pwr Diss: 30mW; Resolution (Bits): 12; Settling Time: 1.5µs; Single Supply: Yes; DatasheetVersion: Rev.A; PackageVersion: 071006-A; PackageReference: N-24-1; PackageDescription: 24-Lead Plastic Dual In-Line Package [PDIP] Narrow Body; Supplier 1: Digi-Key; Supplier Part Number 1: AD7547KN-ND; Supplier 2: Mouser; Supplier Part Number 2: 584-AD7547KN; Packing: Tube; RoHS: N; Mounting Technology: Through Hole; Code_JEDEC: MS-001; ComponentLink1Description: Manufacturer URL; ComponentLink1URL: http://www.analog.com/en/index.html; ComponentLink2Description: Datasheet; ComponentLink2URL: http://www.analog.com/static/imported-files/data_sheets/AD7547.pdf; ComponentLink3Description: Package Specification; ComponentLink3URL: http://www.analog.com/static/imported-files/packages/50726455539629N_24_1.pdf; ComponentLink4Description: Product URL; ComponentLink4URL: http://www.analog.com/en/digital-to-analog-converters/da-converters/ad7547/products/product.html
footprint N-24-1 (DIP, 24-Leads, Row Spacing 7.62mm, Pitch 2.54mm, Body 31.9x6.6mm)
pins: 1 AGND (power) "Analog Ground.", 2 IOUTA (out) "Current output terminal of DACA.", 3 RFBA (in) "Feedback resistor for DACA.", 4 VREFA (in) "Reference input to DACA.", 5 ~{CSA} (in) "Chip Select Input for DACA. Active low.", 6 DB0(LSB) (in) "Data input.", 7 DB1 (in) "Data input.", 8 DB2 (in) "Data input.", 9 DB3 (in) "Data input.", 10 DB4 (in) "Data input.", 11 DB5 (in) "Data input.", 12 DGND (power) "Digital Ground.", 13 DB6 (in) "Data input.", 14 DB7 (in) "Data input.", 15 DB8 (in) "Data input.", 16 DB9 (in) "Data input.", 17 DB10 (in) "Data input.", 18 DB11(MSB) (in) "Data input.", 19 ~{WR} (in) "Write Input. Data transfer occurs on rising edge of W\R\. See Table I.", 20 ~{CSB} (in) "Chip Select Input for DACB. Active low.", 21 VDD (power) "Power supply input. Norminally +12V to +15V with + / - 10% tolerance.", 22 VREFB (in) "Reference input to DACB.", 23 RFBB (in) "Feedback resistor of DACB.", 24 IOUTB (out) "Current output terminal of DACB."

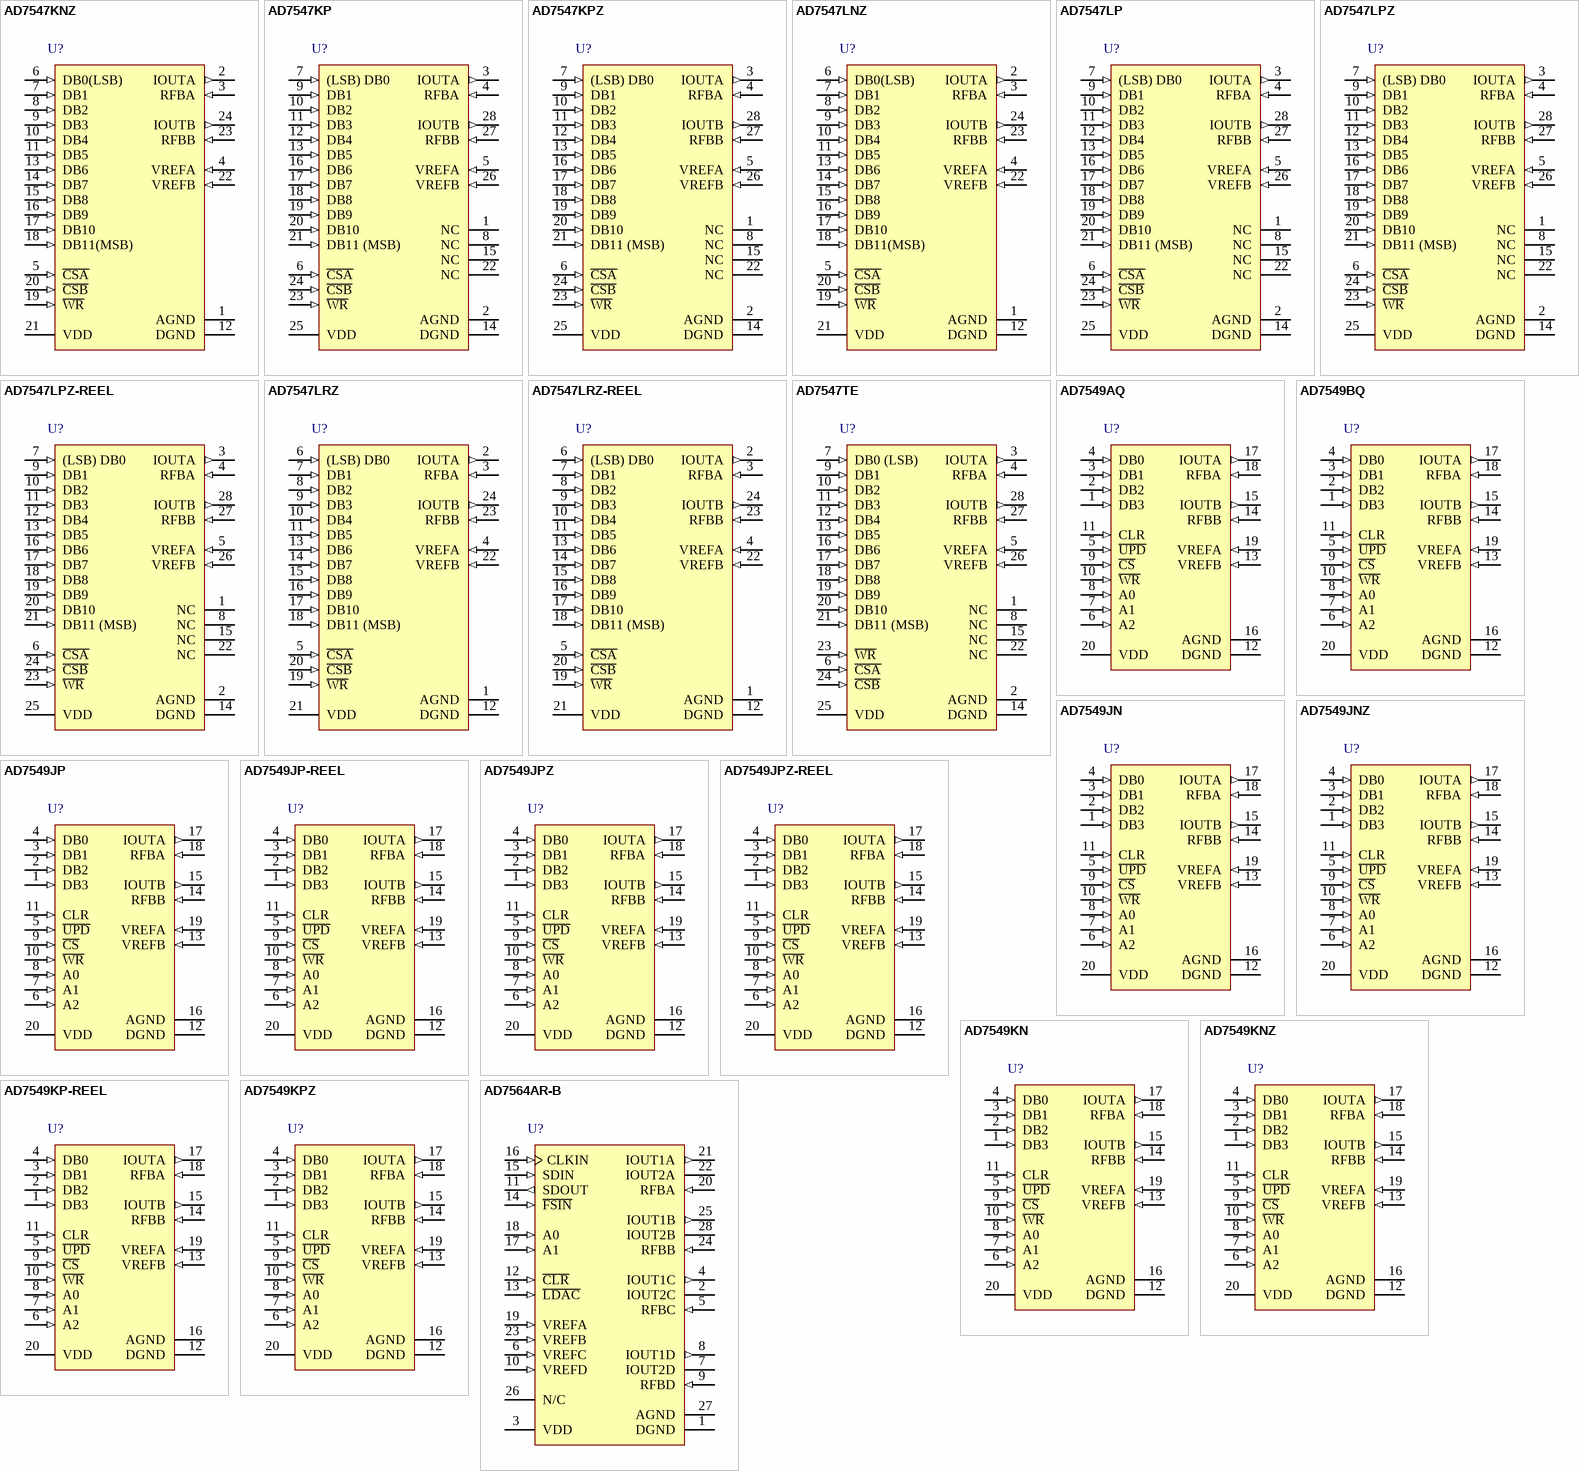
[diagram p70: symbols AD7547KNZ to AD7564AR-B]

## AD7547KNZ
designator U?
Dual 12-Bit LC2MOS Digital-to-Analog Converter with Parallel Loading, 0 to +70 degC, N-24-1, Pb-Free, Tube; Generic Part Number: AD7547; Manufacturer: Analog Devices; PartNumber: AD7547KNZ; # DAC Outputs: 2; Max V+: 16.5V; Op Pwr Diss: 30mW; Resolution (Bits): 12; Settling Time: 1.5µs; Single Supply: Yes; DatasheetVersion: Rev.A; PackageVersion: 071006-A; PackageReference: N-24-1; PackageDescription: 24-Lead Plastic Dual In-Line Package [PDIP] Narrow Body; Supplier 1: Digi-Key; Supplier Part Number 1: AD7547KNZ-ND; Supplier 2: Newark; Supplier Part Number 2: 59K5033; Supplier 3: Mouser; Supplier Part Number 3: 584-AD7547KNZ; Packing: Tube; RoHS: Y; Mounting Technology: Through Hole; Code_JEDEC: MS-001; ComponentLink1Description: Manufacturer URL; ComponentLink1URL: http://www.analog.com/en/index.html; ComponentLink2Description: Datasheet; ComponentLink2URL: http://www.analog.com/static/imported-files/data_sheets/AD7547.pdf; ComponentLink3Description: Package Specification; ComponentLink3URL: http://www.analog.com/static/imported-files/packages/50726455539629N_24_1.pdf; ComponentLink4Description: Product URL; ComponentLink4URL: http://www.analog.com/en/digital-to-analog-converters/da-converters/ad7547/products/product.html
footprint N-24-1 (DIP, 24-Leads, Row Spacing 7.62mm, Pitch 2.54mm, Body 31.9x6.6mm)
pins: 1 AGND (power) "Analog Ground.", 2 IOUTA (out) "Current output terminal of DACA.", 3 RFBA (in) "Feedback resistor for DACA.", 4 VREFA (in) "Reference input to DACA.", 5 ~{CSA} (in) "Chip Select Input for DACA. Active low.", 6 DB0(LSB) (in) "Data input.", 7 DB1 (in) "Data input.", 8 DB2 (in) "Data input.", 9 DB3 (in) "Data input.", 10 DB4 (in) "Data input.", 11 DB5 (in) "Data input.", 12 DGND (power) "Digital Ground.", 13 DB6 (in) "Data input.", 14 DB7 (in) "Data input.", 15 DB8 (in) "Data input.", 16 DB9 (in) "Data input.", 17 DB10 (in) "Data input.", 18 DB11(MSB) (in) "Data input.", 19 ~{WR} (in) "Write Input. Data transfer occurs on rising edge of W\R\. See Table I.", 20 ~{CSB} (in) "Chip Select Input for DACB. Active low.", 21 VDD (power) "Power supply input. Norminally +12V to +15V with + / - 10% tolerance.", 22 VREFB (in) "Reference input to DACB.", 23 RFBB (in) "Feedback resistor of DACB.", 24 IOUTB (out) "Current output terminal of DACB."

## AD7547KP
designator U?
Dual 12-Bit LC2MOS Digital-to-Analog Converter with Parallel Loading, 0 to +70 degC, P-28, Tube; Generic Part Number: AD7547; Manufacturer: Analog Devices; PartNumber: AD7547KP; # DAC Outputs: 2; Max V+: 16.5V; Op Pwr Diss: 30mW; Resolution (Bits): 12; Settling Time: 1.5µs; Single Supply: Yes; DatasheetVersion: Rev.A; PackageVersion: 042508-A; PackageReference: P-28; PackageDescription: 28-Lead Plastic Leaded Chip Carrier [PLCC]; Supplier 1: Digi-Key; Supplier Part Number 1: AD7547KP-ND; Supplier 2: Mouser; Supplier Part Number 2: 584-AD7547KP; Packing: Tube; RoHS: N; Mounting Technology: Surface Mount; Code_JEDEC: MO-047-AB; ComponentLink1Description: Manufacturer URL; ComponentLink1URL: http://www.analog.com/en/index.html; ComponentLink2Description: Datasheet; ComponentLink2URL: http://www.analog.com/static/imported-files/data_sheets/AD7547.pdf; ComponentLink3Description: Package Specification; ComponentLink3URL: http://www.analog.com/static/imported-files/packages/PKG_PDF/PLCC(P)/P_28.pdf; ComponentLink4Description: Product URL; ComponentLink4URL: http://www.analog.com/en/digital-to-analog-converters/da-converters/ad7547/products/product.html
footprint P-28_N (Leaded Chip Carrier, 28-Leads, Body 11.5x11.5mm, Pitch 1.27mm, IPC Medium Density)
footprint P-28_L (Leaded Chip Carrier, 28-Leads, Body 11.5x11.5mm, Pitch 1.27mm, IPC High Density)
footprint P-28_M (Leaded Chip Carrier, 28-Leads, Body 11.5x11.5mm, Pitch 1.27mm, IPC Low Density)
pins: 1 NC, 2 AGND (power), 3 IOUTA (out), 4 RFBA (in), 5 VREFA (in), 6 ~{CSA} (in), 7 (LSB) DB0 (in), 8 NC, 9 DB1 (in), 10 DB2 (in), 11 DB3 (in), 12 DB4 (in), 13 DB5 (in), 14 DGND (power), 15 NC, 16 DB6 (in), 17 DB7 (in), 18 DB8 (in), 19 DB9 (in), 20 DB10 (in), 21 DB11 (MSB) (in), 22 NC, 23 ~{WR} (in), 24 ~{CSB} (in), 25 VDD (power), 26 VREFB (in), 27 RFBB (in), 28 IOUTB (out)

## AD7547KPZ
designator U?
Dual 12-Bit LC2MOS Digital-to-Analog Converter with Parallel Loading, 0 to +70 degC, P-28, Pb-Free, Tube; Generic Part Number: AD7547; Manufacturer: Analog Devices; PartNumber: AD7547KPZ; # DAC Outputs: 2; Max V+: 16.5V; Op Pwr Diss: 30mW; Resolution (Bits): 12; Settling Time: 1.5µs; Single Supply: Yes; DatasheetVersion: Rev.A; PackageVersion: 042508-A; PackageReference: P-28; PackageDescription: 28-Lead Plastic Leaded Chip Carrier [PLCC]; Supplier 1: Digi-Key; Supplier Part Number 1: AD7547KPZ-ND; Supplier 2: Mouser; Supplier Part Number 2: 584-AD7547KPZ; Packing: Tube; RoHS: Y; Mounting Technology: Surface Mount; Code_JEDEC: MO-047-AB; ComponentLink1Description: Manufacturer URL; ComponentLink1URL: http://www.analog.com/en/index.html; ComponentLink2Description: Datasheet; ComponentLink2URL: http://www.analog.com/static/imported-files/data_sheets/AD7547.pdf; ComponentLink3Description: Package Specification; ComponentLink3URL: http://www.analog.com/static/imported-files/packages/PKG_PDF/PLCC(P)/P_28.pdf; ComponentLink4Description: Product URL; ComponentLink4URL: http://www.analog.com/en/digital-to-analog-converters/da-converters/ad7547/products/product.html
footprint P-28_N (Leaded Chip Carrier, 28-Leads, Body 11.5x11.5mm, Pitch 1.27mm, IPC Medium Density)
footprint P-28_L (Leaded Chip Carrier, 28-Leads, Body 11.5x11.5mm, Pitch 1.27mm, IPC High Density)
footprint P-28_M (Leaded Chip Carrier, 28-Leads, Body 11.5x11.5mm, Pitch 1.27mm, IPC Low Density)
pins: 1 NC, 2 AGND (power), 3 IOUTA (out), 4 RFBA (in), 5 VREFA (in), 6 ~{CSA} (in), 7 (LSB) DB0 (in), 8 NC, 9 DB1 (in), 10 DB2 (in), 11 DB3 (in), 12 DB4 (in), 13 DB5 (in), 14 DGND (power), 15 NC, 16 DB6 (in), 17 DB7 (in), 18 DB8 (in), 19 DB9 (in), 20 DB10 (in), 21 DB11 (MSB) (in), 22 NC, 23 ~{WR} (in), 24 ~{CSB} (in), 25 VDD (power), 26 VREFB (in), 27 RFBB (in), 28 IOUTB (out)

## AD7547LNZ
designator U?
Dual 12-Bit LC2MOS Digital-to-Analog Converter with Parallel Loading, 0 to +70 degC, N-24-1, Pb-Free, Tube; Generic Part Number: AD7547; Manufacturer: Analog Devices; PartNumber: AD7547LNZ; # DAC Outputs: 2; Max V+: 16.5V; Op Pwr Diss: 30mW; Resolution (Bits): 12; Settling Time: 1.5µs; Single Supply: Yes; DatasheetVersion: Rev.A; PackageVersion: 071006-A; PackageReference: N-24-1; PackageDescription: 24-Lead Plastic Dual In-Line Package [PDIP] Narrow Body; Supplier 1: Digi-Key; Supplier Part Number 1: AD7547LNZ-ND; Supplier 2: Mouser; Supplier Part Number 2: 584-AD7547LNZ; Packing: Tube; RoHS: Y; Mounting Technology: Through Hole; Code_JEDEC: MS-001; ComponentLink1Description: Manufacturer URL; ComponentLink1URL: http://www.analog.com/en/index.html; ComponentLink2Description: Datasheet; ComponentLink2URL: http://www.analog.com/static/imported-files/data_sheets/AD7547.pdf; ComponentLink3Description: Package Specification; ComponentLink3URL: http://www.analog.com/static/imported-files/packages/50726455539629N_24_1.pdf; ComponentLink4Description: Product URL; ComponentLink4URL: http://www.analog.com/en/digital-to-analog-converters/da-converters/ad7547/products/product.html
footprint N-24-1 (DIP, 24-Leads, Row Spacing 7.62mm, Pitch 2.54mm, Body 31.9x6.6mm)
pins: 1 AGND (power) "Analog Ground.", 2 IOUTA (out) "Current output terminal of DACA.", 3 RFBA (in) "Feedback resistor for DACA.", 4 VREFA (in) "Reference input to DACA.", 5 ~{CSA} (in) "Chip Select Input for DACA. Active low.", 6 DB0(LSB) (in) "Data input.", 7 DB1 (in) "Data input.", 8 DB2 (in) "Data input.", 9 DB3 (in) "Data input.", 10 DB4 (in) "Data input.", 11 DB5 (in) "Data input.", 12 DGND (power) "Digital Ground.", 13 DB6 (in) "Data input.", 14 DB7 (in) "Data input.", 15 DB8 (in) "Data input.", 16 DB9 (in) "Data input.", 17 DB10 (in) "Data input.", 18 DB11(MSB) (in) "Data input.", 19 ~{WR} (in) "Write Input. Data transfer occurs on rising edge of W\R\. See Table I.", 20 ~{CSB} (in) "Chip Select Input for DACB. Active low.", 21 VDD (power) "Power supply input. Norminally +12V to +15V with + / - 10% tolerance.", 22 VREFB (in) "Reference input to DACB.", 23 RFBB (in) "Feedback resistor of DACB.", 24 IOUTB (out) "Current output terminal of DACB."

## AD7547LP
designator U?
Dual 12-Bit LC2MOS Digital-to-Analog Converter with Parallel Loading, 0 to +70 degC, P-28, Tube; Generic Part Number: AD7547; Manufacturer: Analog Devices; PartNumber: AD7547LP; # DAC Outputs: 2; Max V+: 16.5V; Op Pwr Diss: 30mW; Resolution (Bits): 12; Settling Time: 1.5µs; Single Supply: Yes; DatasheetVersion: Rev.A; PackageVersion: 042508-A; PackageReference: P-28; PackageDescription: 28-Lead Plastic Leaded Chip Carrier [PLCC]; Supplier 1: Digi-Key; Supplier Part Number 1: AD7547LP-ND; Supplier 2: Mouser; Supplier Part Number 2: 584-AD7547LP; Packing: Tube; RoHS: N; Mounting Technology: Surface Mount; Code_JEDEC: MO-047-AB; ComponentLink1Description: Manufacturer URL; ComponentLink1URL: http://www.analog.com/en/index.html; ComponentLink2Description: Datasheet; ComponentLink2URL: http://www.analog.com/static/imported-files/data_sheets/AD7547.pdf; ComponentLink3Description: Package Specification; ComponentLink3URL: http://www.analog.com/static/imported-files/packages/PKG_PDF/PLCC(P)/P_28.pdf; ComponentLink4Description: Product URL; ComponentLink4URL: http://www.analog.com/en/digital-to-analog-converters/da-converters/ad7547/products/product.html
footprint P-28_N (Leaded Chip Carrier, 28-Leads, Body 11.5x11.5mm, Pitch 1.27mm, IPC Medium Density)
footprint P-28_L (Leaded Chip Carrier, 28-Leads, Body 11.5x11.5mm, Pitch 1.27mm, IPC High Density)
footprint P-28_M (Leaded Chip Carrier, 28-Leads, Body 11.5x11.5mm, Pitch 1.27mm, IPC Low Density)
pins: 1 NC, 2 AGND (power), 3 IOUTA (out), 4 RFBA (in), 5 VREFA (in), 6 ~{CSA} (in), 7 (LSB) DB0 (in), 8 NC, 9 DB1 (in), 10 DB2 (in), 11 DB3 (in), 12 DB4 (in), 13 DB5 (in), 14 DGND (power), 15 NC, 16 DB6 (in), 17 DB7 (in), 18 DB8 (in), 19 DB9 (in), 20 DB10 (in), 21 DB11 (MSB) (in), 22 NC, 23 ~{WR} (in), 24 ~{CSB} (in), 25 VDD (power), 26 VREFB (in), 27 RFBB (in), 28 IOUTB (out)

## AD7547LPZ
designator U?
Dual 12-Bit LC2MOS Digital-to-Analog Converter with Parallel Loading, 0 to +70 degC, P-28, Pb-Free, Tube; Generic Part Number: AD7547; Manufacturer: Analog Devices; PartNumber: AD7547LPZ; # DAC Outputs: 2; Max V+: 16.5V; Op Pwr Diss: 30mW; Resolution (Bits): 12; Settling Time: 1.5µs; Single Supply: Yes; DatasheetVersion: Rev.A; PackageVersion: 042508-A; PackageReference: P-28; PackageDescription: 28-Lead Plastic Leaded Chip Carrier [PLCC]; Supplier 1: Digi-Key; Supplier Part Number 1: AD7547LPZ-ND; Supplier 2: Mouser; Supplier Part Number 2: 584-AD7547LPZ; Packing: Tube; RoHS: Y; Mounting Technology: Surface Mount; Code_JEDEC: MO-047-AB; ComponentLink1Description: Manufacturer URL; ComponentLink1URL: http://www.analog.com/en/index.html; ComponentLink2Description: Datasheet; ComponentLink2URL: http://www.analog.com/static/imported-files/data_sheets/AD7547.pdf; ComponentLink3Description: Package Specification; ComponentLink3URL: http://www.analog.com/static/imported-files/packages/PKG_PDF/PLCC(P)/P_28.pdf; ComponentLink4Description: Product URL; ComponentLink4URL: http://www.analog.com/en/digital-to-analog-converters/da-converters/ad7547/products/product.html
footprint P-28_N (Leaded Chip Carrier, 28-Leads, Body 11.5x11.5mm, Pitch 1.27mm, IPC Medium Density)
footprint P-28_L (Leaded Chip Carrier, 28-Leads, Body 11.5x11.5mm, Pitch 1.27mm, IPC High Density)
footprint P-28_M (Leaded Chip Carrier, 28-Leads, Body 11.5x11.5mm, Pitch 1.27mm, IPC Low Density)
pins: 1 NC, 2 AGND (power), 3 IOUTA (out), 4 RFBA (in), 5 VREFA (in), 6 ~{CSA} (in), 7 (LSB) DB0 (in), 8 NC, 9 DB1 (in), 10 DB2 (in), 11 DB3 (in), 12 DB4 (in), 13 DB5 (in), 14 DGND (power), 15 NC, 16 DB6 (in), 17 DB7 (in), 18 DB8 (in), 19 DB9 (in), 20 DB10 (in), 21 DB11 (MSB) (in), 22 NC, 23 ~{WR} (in), 24 ~{CSB} (in), 25 VDD (power), 26 VREFB (in), 27 RFBB (in), 28 IOUTB (out)

## AD7547LPZ-REEL
designator U?
Dual 12-Bit LC2MOS Digital-to-Analog Converter with Parallel Loading, 0 to +70 degC, P-28, Pb-Free, Reel; Generic Part Number: AD7547; Manufacturer: Analog Devices; PartNumber: AD7547LPZ-REEL; # DAC Outputs: 2; Max V+: 16.5V; Op Pwr Diss: 30mW; Resolution (Bits): 12; Settling Time: 1.5µs; Single Supply: Yes; DatasheetVersion: Rev.A; PackageVersion: 042508-A; PackageReference: P-28; PackageDescription: 28-Lead Plastic Leaded Chip Carrier [PLCC]; Supplier 1: Digi-Key; Supplier Part Number 1: AD7547LPZ-REEL-ND; Supplier 2: Mouser; Supplier Part Number 2: 584-AD7547LPZ-R; Packing: Reel; RoHS: Y; Mounting Technology: Surface Mount; Code_JEDEC: MO-047-AB; ComponentLink1Description: Manufacturer URL; ComponentLink1URL: http://www.analog.com/en/index.html; ComponentLink2Description: Datasheet; ComponentLink2URL: http://www.analog.com/static/imported-files/data_sheets/AD7547.pdf; ComponentLink3Description: Package Specification; ComponentLink3URL: http://www.analog.com/static/imported-files/packages/PKG_PDF/PLCC(P)/P_28.pdf; ComponentLink4Description: Product URL; ComponentLink4URL: http://www.analog.com/en/digital-to-analog-converters/da-converters/ad7547/products/product.html
footprint P-28_N (Leaded Chip Carrier, 28-Leads, Body 11.5x11.5mm, Pitch 1.27mm, IPC Medium Density)
footprint P-28_L (Leaded Chip Carrier, 28-Leads, Body 11.5x11.5mm, Pitch 1.27mm, IPC High Density)
footprint P-28_M (Leaded Chip Carrier, 28-Leads, Body 11.5x11.5mm, Pitch 1.27mm, IPC Low Density)
pins: 1 NC, 2 AGND (power), 3 IOUTA (out), 4 RFBA (in), 5 VREFA (in), 6 ~{CSA} (in), 7 (LSB) DB0 (in), 8 NC, 9 DB1 (in), 10 DB2 (in), 11 DB3 (in), 12 DB4 (in), 13 DB5 (in), 14 DGND (power), 15 NC, 16 DB6 (in), 17 DB7 (in), 18 DB8 (in), 19 DB9 (in), 20 DB10 (in), 21 DB11 (MSB) (in), 22 NC, 23 ~{WR} (in), 24 ~{CSB} (in), 25 VDD (power), 26 VREFB (in), 27 RFBB (in), 28 IOUTB (out)